# Altium footprint library Switches-relays.PcbLib: 71 footprints (part 4 of 5)
Each footprint in its own frame and in the unit in brackets; x right, y up, seen from the top. Pads: shape width x height; smd on the part's side, far side on the other; paste and mask are expansions set on the pad; w line width, h text height; cw(c..) or ccw(c..) is an arc to the next point about the centre after c.
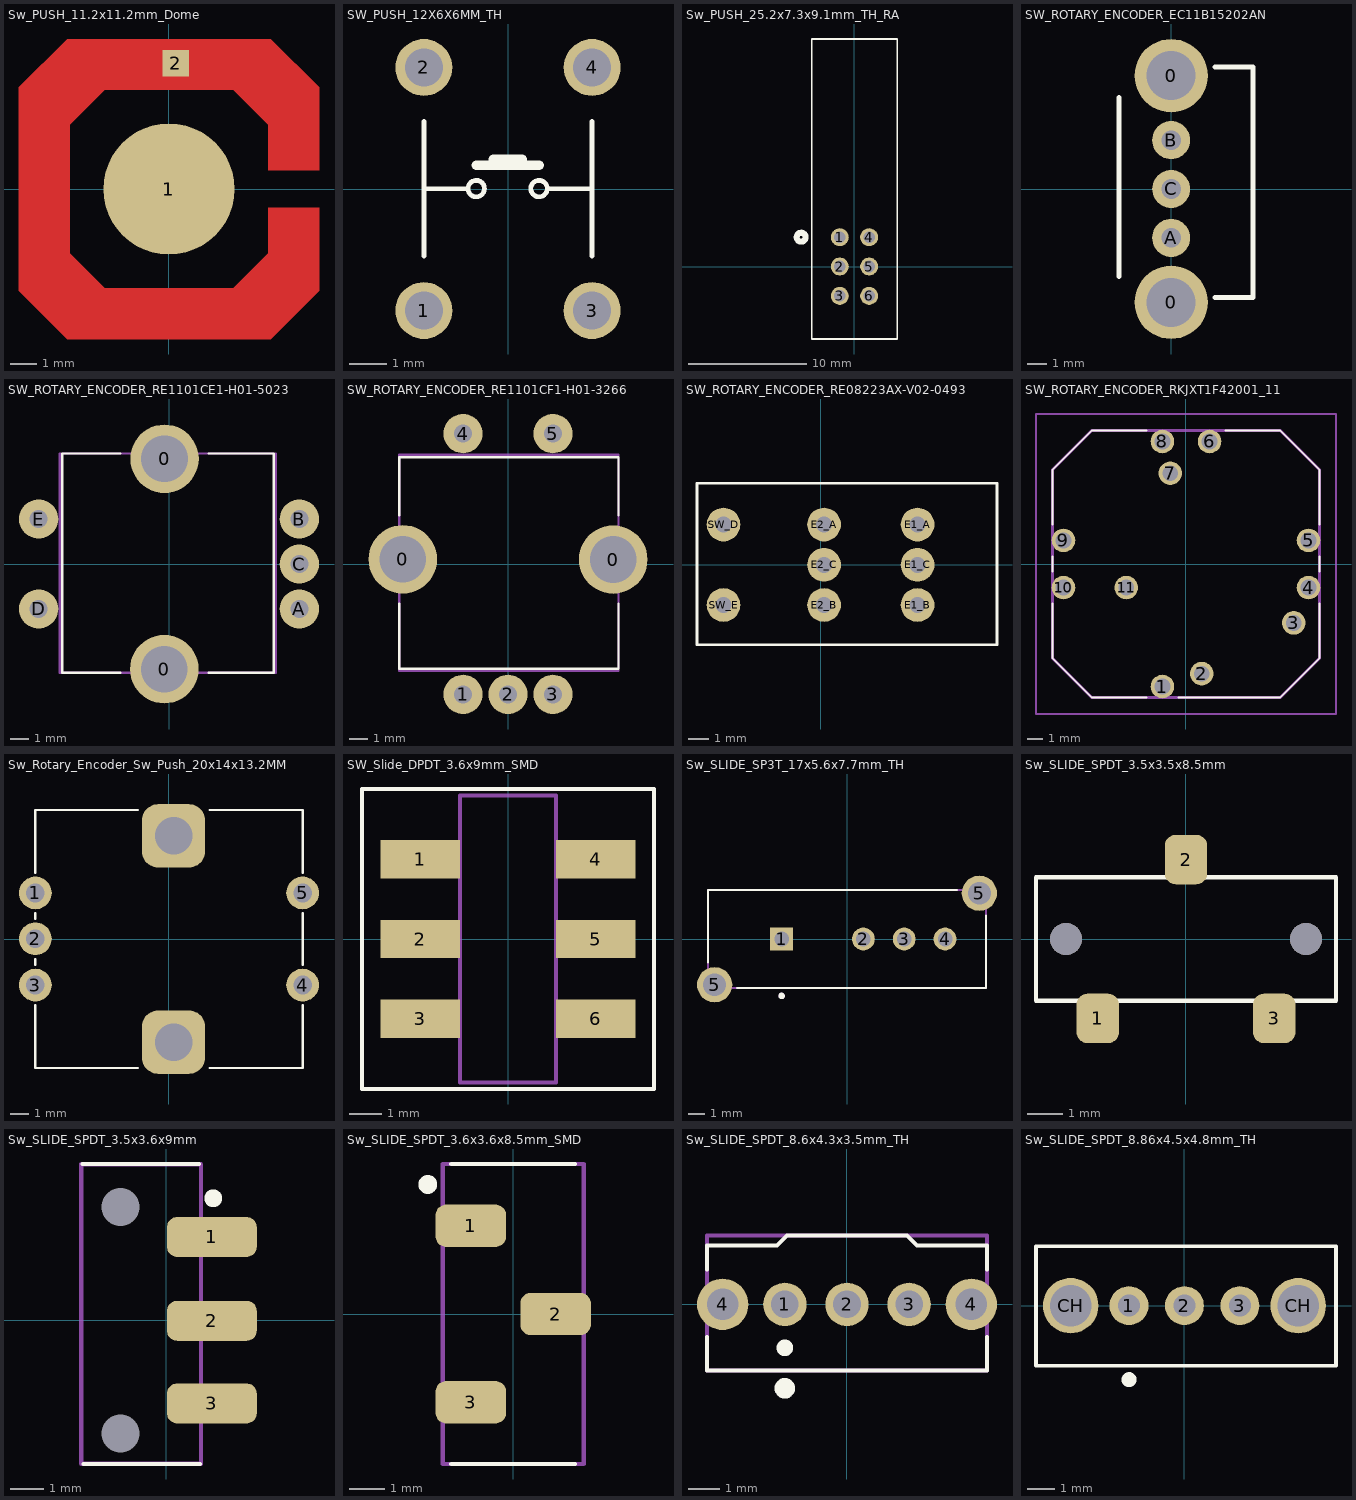
[diagram p3: the footprints below, top view; thin cyan lines are the x and y axes]

## Sw_PUSH_11.2x11.2mm_Dome [mm] "/20230904/J-E.Pachon"
pads (2):
  round 4.9 smd paste-2.45: 1(0,0)
  rect 1x1 smd paste-2.45: 2(0.254,4.699)
Top Layer:
  region: -5.598,-3.8 -3.8,-5.598 3.802,-5.598 5.601,-3.8 5.601,-0.699 3.701,-0.699 3.701,-2.398 2.4,-3.698 -2.398,-3.698 -3.698,-2.398 -3.698,2.4 -2.398,3.701 2.4,3.701 3.701,2.4 3.701,0.701 5.601,0.701 5.601,3.802 3.802,5.601 -3.8,5.601 -5.598,3.802
Top Solder:
  region: -5.598,-3.8 -3.8,-5.598 3.802,-5.598 5.601,-3.8 5.601,-0.699 3.701,-0.699 3.701,-2.398 2.4,-3.698 -2.398,-3.698 -3.698,-2.398 -3.698,2.4 -2.398,3.701 2.4,3.701 3.701,2.4 3.701,0.701 5.601,0.701 5.601,3.802 3.802,5.601 -3.8,5.601 -5.598,3.802

## SW_PUSH_12X6X6MM_TH [mil] "/ 20210112/ C-D Viveros"
pads (4):
  round 60 hole 40: 1(-88.58,-127.95) 2(-88.58,127.95) 3(88.58,-127.95) 4(88.58,127.95)
Top Overlay:
  circle w5: c-33.46,0.39 r8.66
  circle w5: c32.68,0.39 r8.66
  lines w5: -88.58,-70.47 -88.58,71.26 ; -88.58,0.39 -42.13,0.39 ; 41.34,0.39 88.58,0.39 ; 88.58,-70.47 88.58,71.26
  lines w10: -33.46,25.2 32.68,25.2 ; -15.55,31.1 14.76,31.1 ; -13.39,26.38 -13.39,31.1
3D body "TS6-THT_H-12.0.step": height 473.62, standoff -136.61, extent -118.5,-155.12 117.72,155.9

## Sw_PUSH_25.2x7.3x9.1mm_TH_RA [mil] "/20230810/J-A.Sepulveda"
pads (6):
  round 60 hole 39: 1(-49,98) 2(-49,0) 3(-49,-98) 4(49,98) 5(49,0) 6(49,-98)
Top Overlay:
  circle w20: c-178,98 r15
  lines w6: -143,-242 143,-242 143,760 -143,760 -143,-242
Bottom Overlay:
  circle w20: c-178,98 r15
3D body "PBH2UEESNPNAGX--3DModel-STEP-613395.STEP": height 325.3, standoff -192.42, extent -143.92,-236.64 143.48,755.49

## SW_ROTARY_ENCODER_EC11B15202AN [mm] "/20210902/M-C.Calderon"
pads (5):
  round 3.75 hole 2.5: 0(0,-5.8) 0(0,5.8)
  round 1.95 hole 1: A(0,-2.5) B(0,2.5) C(0,0)
Top Overlay:
  lines w0.254: -2.667,-4.474 -2.667,4.684 ; 2.235,-5.559 4.185,-5.559 4.185,6.241 2.235,6.241
3D body "c-1-1879322-2-ba-3d.stp": height 13.76, standoff -3.59, extent -1.707,-6.999 18.393,6.999

## SW_ROTARY_ENCODER_RE1101CE1-H01-5023 [mil] "/20210820/C-D Viveros"
pads (7):
  round 150 hole 102.36: 0(-10.23,-230.32) 0(-9.85,230.32)
  round 86 hole 39.37: A(285.44,-98.43) B(285.44,98.43) C(285.44,0) D(-285.44,-98.43) E(-285.44,98.43)
Top Overlay:
  lines w5: -106.7,-238.38 -233.47,-238.38 -233.47,241.93 -106.7,241.93 ; 87.01,-238.38 229.24,-238.38 229.24,241.93 87.01,241.93
Mechanical 1:
  lines w5: -238.98,-238.38 233.46,-238.38 233.46,241.93 -238.98,241.93 -238.98,-238.38
3D body "RE1101CE1-H01-5023.step": height 965.07, standoff -137.3, extent -296.06,-238.38 290.55,241.93

## SW_ROTARY_ENCODER_RE1101CF1-H01-3266 [mil] "/20210827/M-C.Calderon"
pads (7):
  round 150 hole 102.36: 0(-230.32,10.24) 0(230.32,9.85)
  round 86 hole 39.37: 1(-98.43,-285.43) 2(0,-285.43) 3(98.43,-285.43) 4(-98.43,285.44) 5(98.43,285.44)
Top Overlay:
  lines w5: -238.38,-87.01 -238.38,-229.24 241.93,-229.24 241.93,-87.01 ; -238.38,106.7 -238.38,233.47 241.93,233.47 241.93,106.7
Mechanical 1:
  lines w5: -238.38,-233.46 -238.38,238.98 241.93,238.98 241.93,-233.46 -238.38,-233.46
3D body "RE1101CF1-H01-3266.stp": height 1232.79, standoff -153.07, extent -275.56,-287.71 275.57,298.91

## SW_ROTARY_ENCODER_RE08223AX-V02-0493 [mil] "/20210831/N-A.Potosi"
pads (8):
  round 66 / inner round 0 / far side round 66 hole 31.5: E1_A(189.96,78.74) E1_B(189.96,-78.74) E1_C(189.96,0) E2_A(6.89,78.74) E2_B(6.89,-78.74) E2_C(6.89,0) SW_D(-189.96,78.74)
  oval 66x65.98 / inner round 0 / far side round 66 hole 31.5: SW_E(-189.96,-78.74)
Top Overlay:
  lines w5: -241.89,-156.87 345.47,-156.87 345.47,160 -241.89,160 -241.89,-156.87
3D body "RE08223AX-V02-0493.step": height 361.12, standoff -86.22, extent -234.24,-150.98 1173.39,152.16

## SW_ROTARY_ENCODER_RKJXT1F42001_11 [mm] "/20210728/M-C.Calderon"
pads (11):
  round 1.5 hole 1: 1(-1.5,-7.8) 2(1,-6.98) 3(6.86,-3.75) 4(7.8,-1.5) 5(7.8,1.5) 6(1.5,7.8) 7(-1,5.78) 8(-1.5,7.8) 9(-7.8,1.5) 10(-7.8,-1.5) 11(-3.8,-1.5)
Top Overlay:
  lines w0.1: -8.5,-2.5 -8.5,-6 -6,-8.5 -2.5,-8.5 ; -8.5,-0.5 -8.5,0.5 ; -8.5,2.5 -8.5,6 -6,8.5 -2.5,8.5 ; -0.5,-8.5 6,-8.5 8.5,-6 8.5,-2.5 ; 2.5,8.5 6,8.5 8.5,6 8.5,2.5 ; 8.5,-0.5 8.5,0.5
Mechanical 1:
  lines w0.2: -8.5,-6 -8.5,6 -6,8.5 6,8.5 8.5,6 8.5,-6 6,-8.5 -6,-8.5 -8.5,-6
Mechanical 15:
  lines w0.1: -9.55,-9.55 9.55,-9.55 9.55,9.55 -9.55,9.55 -9.55,-9.55
3D body "RKJXT1F42001.stp": height 17.4, standoff -3.22, extent -8.6,-8.6 8.6,8.6

## Sw_Rotary_Encoder_Sw_Push_20x14x13.2MM [mil] "/ V-A.Patino/ 20201230"
pads (7):
  round 70 hole 40: 1(-285.43,98.43) 2(-285.43,0.39) 3(-285.43,-98.43) 4(285.43,-98.43) 5(285.43,98.43)
  rrect50% 135x135 hole 80 square: ""(9.84,-220.47) ""(9.84,220.47)
Top Overlay:
  lines w5: -285.43,-141.73 -285.43,-275.59 -66.93,-275.59 ; -285.43,-55.12 -285.43,-43.31 ; -285.43,43.31 -285.43,55.12 ; -285.43,141.73 -285.43,275.59 -66.93,275.59 ; 86.61,-275.59 285.43,-275.59 285.43,-141.73 ; 86.61,275.59 285.43,275.59 285.43,141.73 ; 285.43,-55.12 285.43,55.12
3D body "en12-hs22af20.stp": height 787.9, standoff -137.29, extent -287.4,-275.19 287.41,275.99

## SW_Slide_DPDT_3.6x9mm_SMD [mm] "/20220503/J-E.Pachon"
pads (6):
  rect 2.5x1.2 smd: 1(-2.75,2.5) 2(-2.75,0) 3(-2.75,-2.5) 4(2.75,2.5) 5(2.75,0) 6(2.75,-2.5)
Top Overlay:
  lines w0.127: -4.572,-4.699 -4.572,4.699 4.572,4.699 4.572,-4.699 -4.572,-4.699
Top 3D Body (Mech13):
  lines w0.127: -1.5,-4.5 1.5,-4.5 1.5,4.5 -1.5,4.5 -1.5,-4.5
3D body "JS202011SCQN--3DModel-STEP-56544.STEP": height 5.51, standoff 0, extent -3.746,-4.496 3.747,4.496

## Sw_SLIDE_SP3T_17x5.6x7.7mm_TH [mil] "/20210512/ J-E.Pachon"
pads (6):
  rect 55x55 hole 35: 1(-157.48,0)
  round 55 hole 35: 2(39.37,0) 3(137.8,0) 4(236.22,0)
  round 85 hole 55: 5(-318.9,-110.24) 5(318.9,110.24)
Top Overlay:
  circle w7.87: c-157.48,-137.17 r3.94
  lines w5: -334.65,-56.3 -334.65,118.11 264.96,118.11 ; -264.96,-118.11 334.65,-118.11 334.65,56.3
Top 3D Body (Mech13):
  circle w7.87: c-157.48,-137.17 r3.94
  lines w5: -334.65,-118.11 -334.65,118.11 334.65,118.11 334.65,-118.11 -334.65,-118.11
3D body "OS103012MU1QP1.stp": height 350.9, standoff -156.98, extent -332.21,-115.59 337.09,120.63

## Sw_SLIDE_SPDT_3.5x3.5x8.5mm [mm] "/20201215/M-C.Calderon"
pads (5):
  rrect50% 1.2x1.4 smd: 1(-2.5,-2.25) 2(0,2.25) 3(2.5,-2.25)
  round 0.902 hole 0.9 unplated: ""(-3.4,0)
  round 0.9 hole 0.9 unplated: ""(3.4,0)
Top Overlay:
  lines w0.127: -4.25,-1.75 4.25,-1.75 4.25,1.75 -4.25,1.75 -4.25,-1.75
3D body "CL-SB-12B-01T.stp": height 5.51, standoff -0.79, extent -4.25,-2.47 4.25,2.53

## Sw_SLIDE_SPDT_3.5x3.6x9mm [mm] "/ 20190228 / C-A.Serna.A"
pads (5):
  rrect50% 2.7x1.2 smd: 1(1.375,2.5) 2(1.375,-0.02) 3(1.375,-2.5)
  round 0.9 hole 1.143 unplated mask+0: ""(-1.375,-3.4) ""(-1.375,3.4)
Top Overlay:
  circle w0.381: c1.415,3.66 r0.076
  lines w0.127: -2.51,4.69 0.99,4.69 ; -2.48,-4.32 1.02,-4.32
Mechanical 1:
  lines w0.127: -2.55,4.68 1.05,4.68 1.05,-4.32 ; -2.55,4.69 -2.55,-4.31 1.05,-4.31
3D body "Sw_SLIDE_SPDT_3.5x3.6x9mm_SMD_Right-Angle.STEP": height 3.23, standoff -1.07, extent -5.15,-4.49 2.35,4.51

## Sw_SLIDE_SPDT_3.6x3.6x8.5mm_SMD [mm] "/ 20191008 / C-D Viveros"
pads (3):
  rrect50% 2x1.2 smd: 1(-1.2,2.5) 2(1.2,0) 3(-1.2,-2.5)
Top Overlay:
  circle w0.381: c-2.42,3.67 r0.076
  lines w0.127: -1.75,-4.25 1.75,-4.25 ; -1.75,4.25 1.75,4.25
Mechanical 1:
  lines w0.127: -2,-4.25 -2,4.25 2,4.25 2,-4.25 -2,-4.25
3D body "JS102011JCQN--3DModel-STEP-56544.STEP": height 5.41, standoff 0.01, extent -2,-4.25 2,4.25

## Sw_SLIDE_SPDT_8.6x4.3x3.5mm_TH [mil] "/ 20191211 / C-D Viveros"
pads (5):
  round 55 hole 35: 1(-78.74,0) 2(0,0) 3(78.74,0)
  round 65 hole 40: 4(-157.48,0) 4(157.48,0)
Top Overlay:
  circle w15: c-78.74,-106.3 r5.51
  circle w15: c-78.74,-55.12 r3
  lines w5: -177.17,-41.14 -177.17,-83.86 177.17,-83.86 177.17,-41.14 ; -177.17,44.29 -177.17,74.8 -88.58,74.8 -75.98,87.4 75.98,87.4 88.58,74.8 177.17,74.8 177.17,44.29
Mechanical 1:
  lines w5: -177.56,-83.86 177.17,-83.86 177.17,87.01 -177.17,87.01 -177.17,-83.86
3D body "1825232-1 v7.step": height 138.3, standoff -101.86, extent -177.45,-83.86 177.45,203.54

## Sw_SLIDE_SPDT_8.86x4.5x4.8mm_TH [mm] "/ 20231112 / J.Jaramillo"
pads (5):
  round 1.4 hole 0.8: 1(-2,0) 2(0,0) 3(2,0)
  round 2 hole 1.5: CH(-4.1,0) CH(4.1,0)
Top Overlay:
  circle w0.381: c-2,-2.667 r0.076
  lines w0.127: -5.352,-2.159 -5.352,2.141 -4.3,2.141 5,2.141 5.461,2.141 5.461,-2.159 -5.352,-2.159
3D body "OS102011MS2QN1--3DModel-STEP-1.STEP": height 9.4, standoff -2.1, extent -4.3,-2.159 4.3,2.141